# Altium footprint library Footprint.PcbLib: 240 footprints (part 2 of 15)
Each footprint in its own frame and in the unit in brackets; x right, y up, seen from the top. Pads: shape width x height; smd on the part's side, far side on the other; paste and mask are expansions set on the pad; w line width, h text height; cw(c..) or ccw(c..) is an arc to the next point about the centre after c.
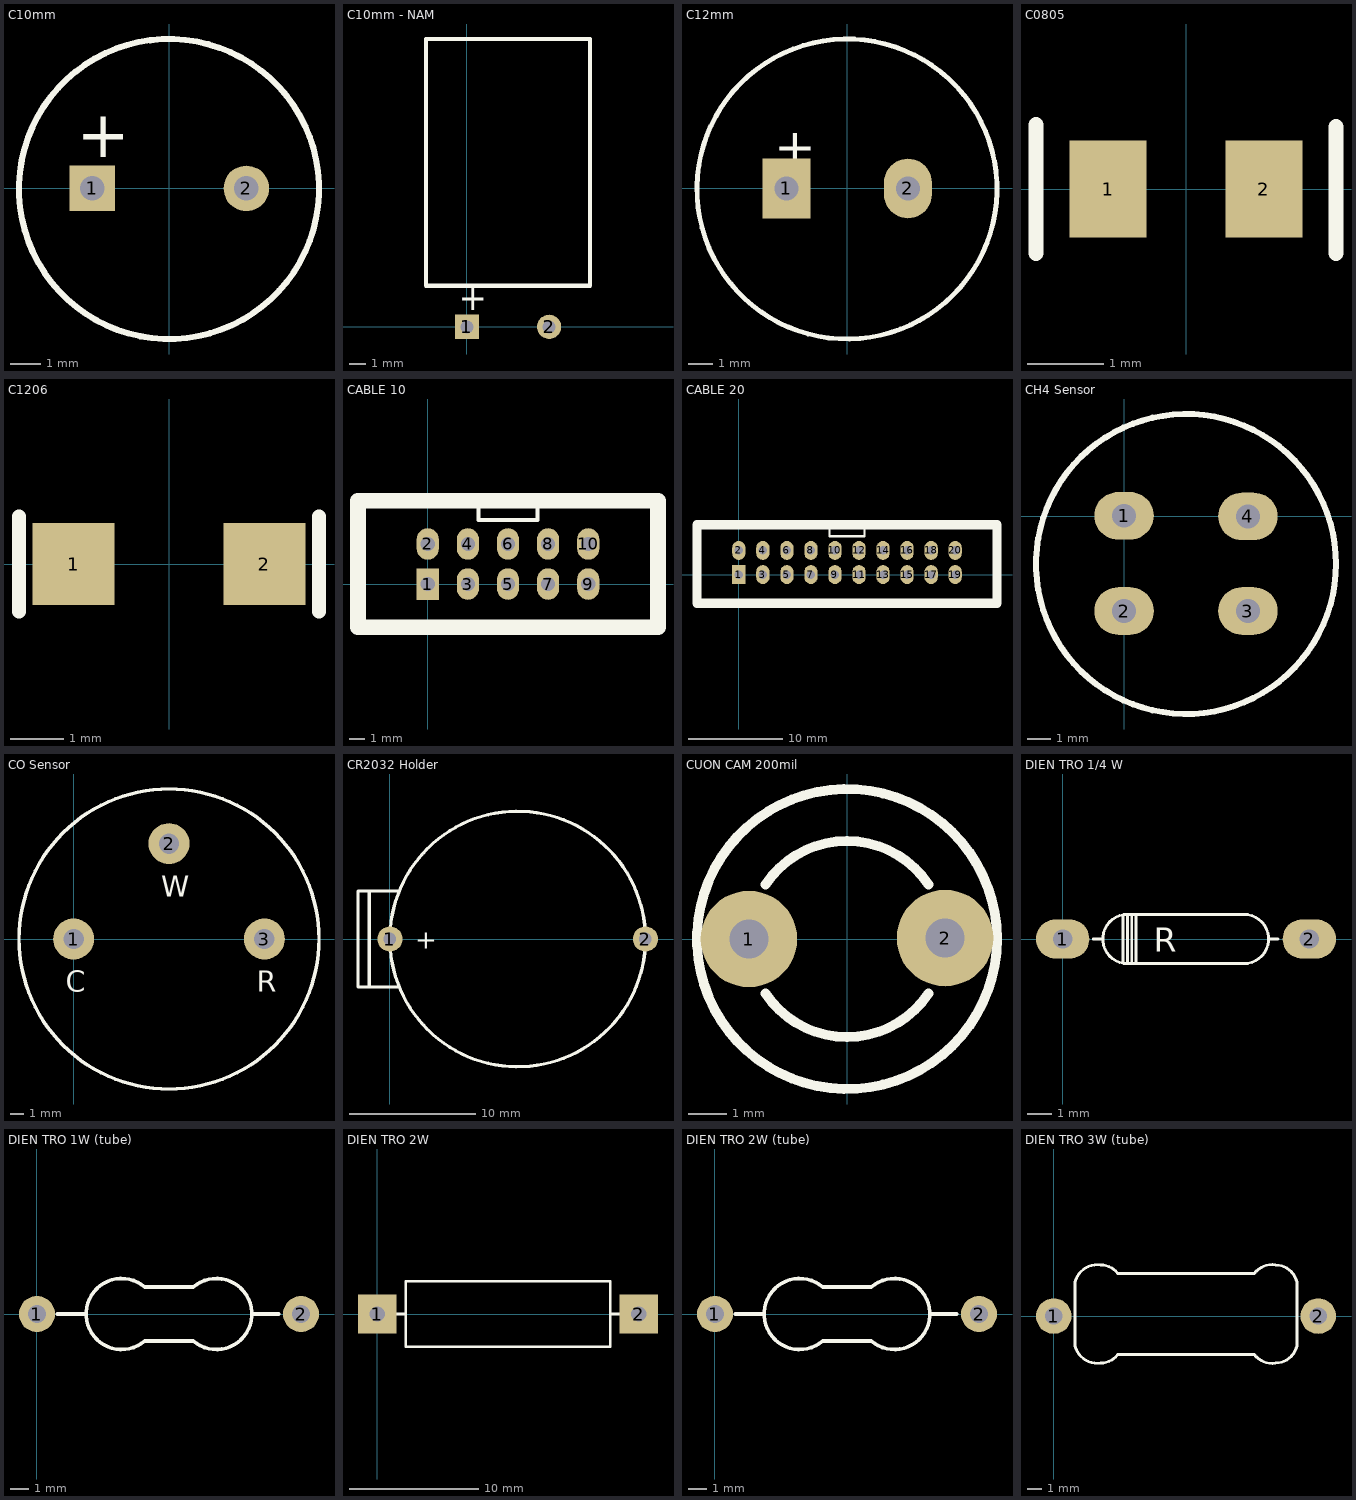
[diagram p1: the footprints below, top view; thin cyan lines are the x and y axes]

## C10mm [mm]
pads (2):
  rect 1.5x1.5 hole 0.8: 1(-2.54,0)
  round 1.5 hole 0.8: 2(2.54,0)
Top Overlay:
  lines w0.203: 3.591,3.365 ccw(c-0.008,-0.022) 3.623,3.33
  text "+" at -3.048,1.016 h1.52
3D body: height 20.01, standoff -2.7, extent -5,-5 4.967,5

## C10mm - NAM [mm]
pads (2):
  rect 1.5x1.5 hole 0.8: 1(0,0)
  round 1.5 hole 0.8: 2(5.08,0)
Top Overlay:
  lines w0.254: -2.527,2.54 -2.527,17.793 7.607,17.793 7.607,2.54 -2.527,2.54
  text "+" at -0.508,1.016 h1.52

## C12mm [mm]
pads (2):
  rect 2x2.5 hole 1: 1(-2.54,0)
  oval 2x2.5 hole 1: 2(2.54,0)
Top Overlay:
  lines w0.203: 4.556,4.273 ccw(c-0.008,-0.022) 4.597,4.228
  text "+" at -3.048,1.016 h1.52
3D body: height 2.2, standoff -25.51, extent -6.25,-6.25 6.207,6.25

## C0805 [mm] "Chip Resistor; Body 2.0 x 1.3 mm (LxW typ)"
height 2.54
pads (2):
  rect 1x1.27 smd: 1(-1.016,0) 2(1.016,0)
Top Overlay:
  lines w0.2: -1.956,-0.838 -1.956,0.838 ; 1.956,-0.838 1.956,0.813
3D body: height 0.78, standoff 0, extent -1,-0.625 1,0.625

## C1206 [mil]
pads (2):
  rect 60x60 smd: 1(-70,0) 2(70,0)
Top Overlay:
  lines w10: -110,-35 -110,35 ; 110,-35 110,35
3D body: height 39.45, standoff 0, extent -62.99,-31.49 63,31.5
3D body: height 40, standoff 0, extent -35,-35 35,35

## CABLE 10 [mm] "Connector; Header; 5x2 Position"
pads (10):
  rect 1.4x2 hole 0.9: 1(0,0)
  oval 1.4x2 hole 0.9: 2(0,2.54) 3(2.54,0) 4(2.54,2.54) 5(5.08,0) 6(5.08,2.54) 7(7.62,0) 8(7.62,2.54) 9(10.16,0) 10(10.16,2.54)
Top Overlay:
  lines w0.254: 3.226,5.27 3.226,4.064 5.08,4.064 6.934,4.064 6.934,5.27
  lines w1: -4.42,-2.73 -4.42,5.27 14.58,5.27 14.58,-2.73 -4.42,-2.73
3D body: height 9.86, standoff -3.05, extent -5.08,-3.302 15.24,5.842

## CABLE 20 [mm] "Connector; Header; 5x2 Position"
pads (20):
  rect 1.4x2 hole 0.9: 1(0,0)
  oval 1.4x2 hole 0.9: 2(0,2.54) 3(2.54,0) 4(2.54,2.54) 5(5.08,0) 6(5.08,2.54) 7(7.62,0) 8(7.62,2.54) 9(10.16,0) 10(10.16,2.54) 11(12.7,0) 12(12.7,2.54) 13(15.24,0) 14(15.24,2.54) 15(17.78,0) 16(17.78,2.54) 17(20.32,0) 18(20.32,2.54) 19(22.86,0) 20(22.86,2.54)
Top Overlay:
  lines w0.254: 9.576,5.27 9.576,4.064 11.43,4.064 13.284,4.064 13.284,5.27
  lines w1: 8.28,-3.048 27.28,-3.048 27.28,5.27 8.28,5.27 ; 14.58,-3.048 -4.42,-3.048 -4.42,5.27 14.58,5.27
3D body: height 9.3, standoff -2.5, extent -5.02,-3.63 27.88,5.77

## CH4 Sensor [mm]
pads (4):
  oval 2.5x2 hole 1: 1(0,0.025) 2(0,-3.975) 3(5.2,-3.975) 4(5.2,0)
Top Overlay:
  circle w0.254: c2.6,-2 r6.3

## CO Sensor [mm]
pads (3):
  round 3 hole 1.5: 1(0,0) 2(7,7) 3(14,0)
Top Overlay:
  circle w0.254: c7,0 r11
  text "R" at 13.441,-3.886 h1.52
  text "W" at 6.441,3.114 h1.52
  text "C" at -0.559,-3.886 h1.52

## CR2032 Holder [mm]
pads (2):
  round 2 hole 1: 1(0,0) 2(20.32,0)
Top Overlay:
  circle w0.254: c10.16,0 r10.161
  lines w0.254: -1.651,-3.81 -1.651,3.81 ; 0.635,-3.81 -2.54,-3.81 -2.54,3.81 0.635,3.81
  text "+" at 2.032,-0.762 h1.52

## CUON CAM 200mil [mm]
pads (2):
  round 2.5 hole 1: 1(-2.54,0) 2(2.54,0.025)
Top Overlay:
  circle w0.254: c0,0 r3.886
  lines w0.254: -2.114,-1.409 ccw(c0,0) 2.114,-1.409 ; -2.114,1.409 cw(c0,0) 2.114,1.409

## DIEN TRO 1/4 W [mm]
pads (2):
  oval 2.2x1.6 hole 0.787: 1(0,0) 2(10.16,0)
Top Overlay:
  lines w0.12: 1.257,0 1.651,0 ; 2.489,-0.978 2.489,0.978 ; 2.591,1.016 7.468,1.016 cw(c7.468,0) 7.468,-1.016 2.667,-1.016 cw(c2.667,0) 2.667,1.016 ; 2.68,-1.016 2.667,-1.003 2.667,1.003 2.68,1.016 ; 2.845,-1.016 2.845,1.016 ; 3.023,-1.003 3.023,0.991 ; 8.484,0 8.877,0
  text "R" at 3.746,-0.521 h1
3D body: height 2.93, standoff -2.54, extent -0.305,-1.156 10.465,1.156

## DIEN TRO 1W (tube) [mm] "Dien tro 1W hinh ong"
pads (2):
  round 2 hole 1: 1(0,0) 2(14.707,0)
Top Overlay:
  lines w0.2: 1.143,0 2.701,0 ; 12.006,0 13.462,0
  lines w0.203: 6.003,-1.501 cw(c4.716,0) 6.003,1.501 8.704,1.501 cw(c9.99,0) 8.704,-1.501 6.003,-1.501

## DIEN TRO 2W [mm]
pads (2):
  rect 3x3 hole 1.2: 1(0,0) 2(20.32,0)
Top Overlay:
  lines w0.203: 2.222,-2.54 18.098,-2.54 ; 2.222,-2.54 2.222,2.54 ; 2.222,-2.54 18.098,-2.54 ; 2.222,-2.54 2.222,2.54 ; 2.222,2.54 18.098,2.54 ; 2.222,2.54 18.098,2.54 ; 18.098,-2.54 18.098,2.54 ; 18.098,-2.54 18.098,2.54 ; 1.27,0 2.222,0 1.27,0 ; 18.098,0 19.05,0 18.098,0
3D body: height 5.08, standoff 0, extent 2.222,-2.54 18.098,2.54

## DIEN TRO 2W (tube) [mm] "Dien tro 2W hinh ong"
pads (2):
  round 2 hole 1: 1(0,0) 2(14.707,0)
Top Overlay:
  lines w0.2: 1.143,0 2.701,0 ; 12.006,0 13.462,0
  lines w0.203: 6.003,-1.501 cw(c4.716,0) 6.003,1.501 8.704,1.501 cw(c9.99,0) 8.704,-1.501 6.003,-1.501

## DIEN TRO 3W (tube) [mm] "Dien tro 3W dang ong tru"
pads (2):
  round 2.5 hole 1.2: 1(0,0) 2(18.609,0)
Top Overlay:
  lines w0.2: 3.302,-3.302 cw(c3.062,-1.711) 1.501,-2.101 1.501,2.401 cw(c3.062,2.011) 3.302,3.602 cw(c3.302,2.101) 4.502,3.002 14.107,3.001 cw(c15.357,2.051) 15.607,3.602 cw(c15.586,2.037) 17.108,2.401 17.108,-2.101 cw(c15.586,-1.737) 15.607,-3.302 cw(c15.357,-1.751) 14.107,-2.701 4.502,-2.701 cw(c3.302,-1.801) 3.302,-3.301